# Altium footprint library ch340c.PcbLib: 7 footprints
Each footprint in its own frame and in the unit in brackets; x right, y up, seen from the top. Pads: shape width x height; smd on the part's side, far side on the other; paste and mask are expansions set on the pad; w line width, h text height; cw(c..) or ccw(c..) is an arc to the next point about the centre after c.
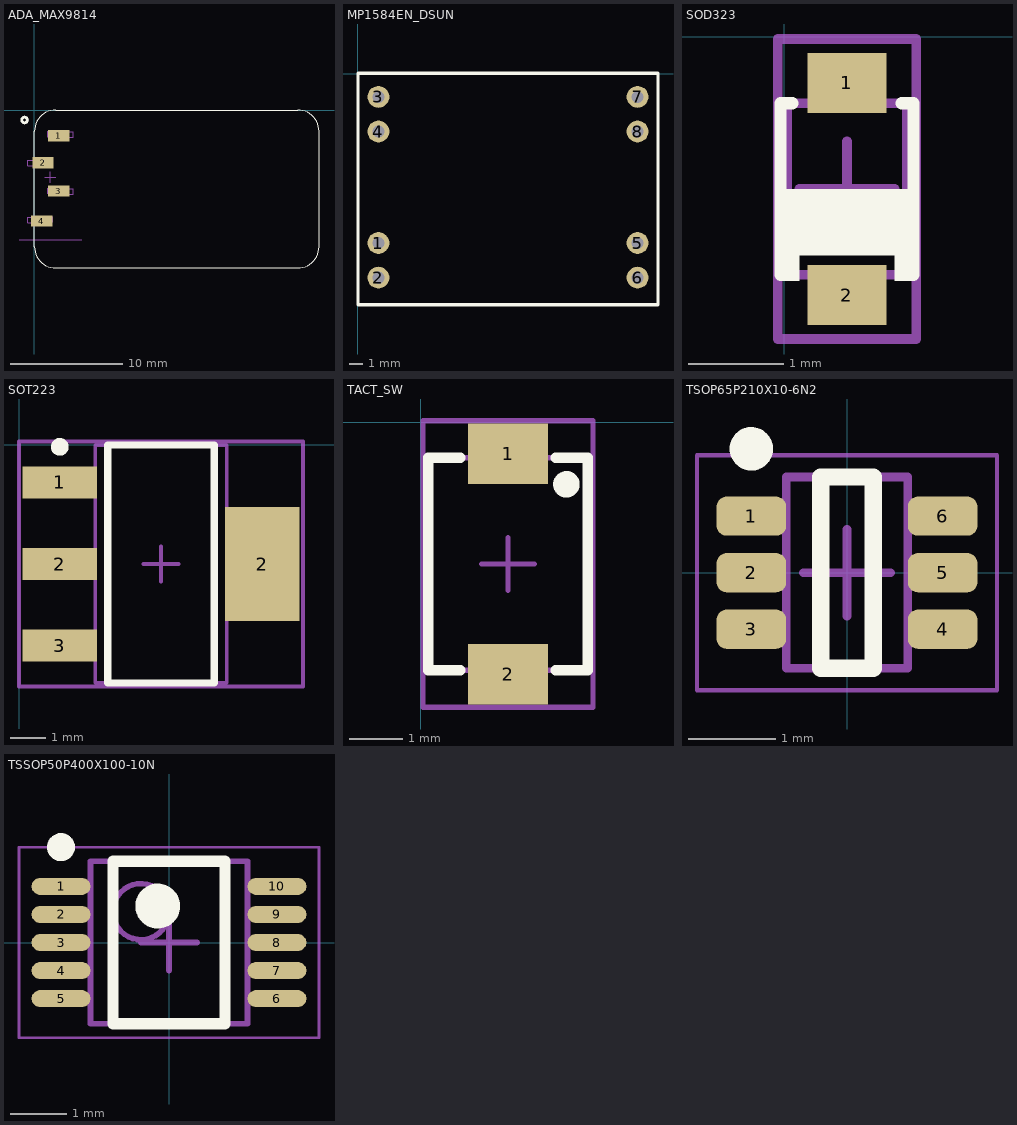
[diagram p0: the footprints below, top view; thin cyan lines are the x and y axes]

## ADA_MAX9814 [mm]
pads (4):
  rect 1.91x1 smd: 1(2.159,-2.286) 2(0.762,-4.699) 3(2.159,-7.239) 4(0.635,-9.906)
Top Overlay:
  circle w0.254: c-0.889,-0.889 r0.254
  lines w0.1: 0,-12.192 ccw(c1.905,-12.192) 1.905,-14.097 23.495,-14.097 ccw(c23.495,-12.192) 25.4,-12.192 25.4,-1.905 ccw(c23.495,-1.905) 23.495,0 1.905,0 ccw(c1.905,-1.905) 0,-1.905 0,-12.192
Mechanical 8:
  region: 1.143,-1.905 1.651,-1.905 1.651,-2.413 1.143,-2.413
  region: 1.143,-4.445 1.651,-4.445 1.651,-4.953 1.143,-4.953
  region: 1.143,-6.985 1.651,-6.985 1.651,-7.493 1.143,-7.493
  region: 1.143,-9.525 1.651,-9.525 1.651,-10.033 1.143,-10.033
Mechanical 13:
  lines w0.1: 0.169,-10.056 -0.606,-10.056 -0.606,-9.556 0.169,-9.556 ; 0.169,-4.976 -0.606,-4.976 -0.606,-4.476 0.169,-4.476 ; 2.669,-7.516 3.444,-7.516 3.444,-7.016 2.669,-7.016 ; 2.669,-2.436 3.444,-2.436 3.444,-1.936 2.669,-1.936
Mechanical 15:
  lines w0.05: -1.381,-11.601 4.219,-11.601 ; 0.919,-5.996 1.919,-5.996 ; 1.419,-6.496 1.419,-5.496

## MP1584EN_DSUN [mm]
pads (8):
  round 1.6 hole 0.9: 1(1.526,-12.398) 2(1.526,-14.938) 3(1.526,-1.684) 4(1.526,-4.224) 5(20.526,-12.398) 6(20.526,-14.938) 7(20.526,-1.684) 8(20.526,-4.224)
Top Overlay:
  lines w0.254: 0.026,-16.938 22.026,-16.938 22.026,0.062 0.026,0.062 0.026,-16.938
3D body "PCB_REG.STEP": height 4.26, standoff 0.59, extent -0.052,-16.829 21.948,0.171

## SOD323 [mm]
pads (2):
  rect 0.83x0.63 smd: 1(0.66,-0.485) 2(0.66,-2.715)
Top Overlay:
  region: -0.04,-2.014 -0.04,-2.564 0.16,-2.564 0.16,-2.014
  region: 1.16,-2.014 1.16,-2.564 1.36,-2.564 1.36,-2.014
  region: -0.04,-1.6 -0.04,-2.3 1.36,-2.3 1.36,-1.6
  lines w0.127: 0.085,-2.5 -0.04,-2.5 -0.04,-0.7 0.085,-0.7 ; 1.235,-2.5 1.36,-2.5 1.36,-0.7 1.235,-0.7
Mechanical 13:
  lines w0.1: 0.035,-2.5 0.035,-0.7 1.285,-0.7 1.285,-2.5 0.035,-2.5
Mechanical 15:
  lines w0.1: 0.16,-1.6 1.16,-1.6 ; 0.66,-2.1 0.66,-1.1 ; -0.065,-3.175 1.385,-3.175 1.385,-0.025 -0.065,-0.025 -0.065,-3.175
3D body "User Library-SOD323.step": height 1.1, standoff 0, extent 0.035,-2.95 1.285,-0.25

## SOT223 [mm]
pads (4):
  rect 2.1x0.9 smd: 1(1.138,-1.053) 2(1.138,-3.353) 3(1.138,-5.653)
  rect 2.1x3.2 smd: 2(6.838,-3.353)
Top Overlay:
  circle w0.25: c1.138,-0.053 r0.125
  lines w0.2: 2.488,-6.703 5.488,-6.703 5.488,-0.003 2.488,-0.003 2.488,-6.703
Mechanical 13:
  lines w0.1: 2.138,-6.703 5.838,-6.703 5.838,-0.003 2.138,-0.003 2.138,-6.703
Mechanical 15:
  lines w0.1: 3.488,-3.353 4.488,-3.353 ; 3.988,-3.853 3.988,-2.853 ; -0.012,-6.803 7.988,-6.803 7.988,0.097 -0.012,0.097 -0.012,-6.803
3D body "User Library-SOT-223-4.STEP": height 1.65, standoff 0, extent 0.444,-6.603 7.531,-0.103

## TACT_SW [mm]
pads (4):
  rect 1.5x1.143 smd: 1(1.64,-0.592) 2(1.64,-4.742)
  round 0 all layers, no hole paste-2.54 mask-2.54: MH1(2.54,-2.667) MH2(0.74,-2.667)
Top Overlay:
  circle w0.25: c2.74,-1.167 r0.125
  lines w0.2: 0.74,-4.667 0.14,-4.667 0.14,-0.667 0.74,-0.667 ; 2.54,-4.667 3.14,-4.667 3.14,-0.667 2.54,-0.667
Mechanical 13:
  lines w0.1: 0.14,-4.667 3.14,-4.667 3.14,-0.667 0.14,-0.667 0.14,-4.667
Mechanical 15:
  lines w0.1: 1.14,-2.667 2.14,-2.667 ; 1.64,-3.167 1.64,-2.167 ; 0.04,-5.367 3.24,-5.367 3.24,0.033 0.04,0.033 0.04,-5.367
3D body "SMT Tactile Switch PTS-820.STEP": height 2.05, standoff -0.5, extent 0.09,-4.917 3.19,-0.417

## TSOP65P210X10-6N2 [mm] "TSOP, 6-Leads, Body 2.00x1.25mm, Pitch 0.65mm, IPC Medium Density"
height 0.1
pads (6):
  rrect50% 0.8x0.45 smd mask+0.065: 1(-1.1,0.65) 2(-1.1,0) 3(-1.1,-0.65) 4(1.1,-0.65) 5(1.1,0) 6(1.1,0.65)
Top Overlay:
  circle w0.25: c-1.1,1.425 r0.125
  lines w0.2: -0.3,-1.1 -0.3,1.1 0.3,1.1 0.3,-1.1 -0.3,-1.1
Mechanical 13:
  lines w0.1: -0.7,-1.1 -0.7,1.1 0.7,1.1 0.7,-1.1 -0.7,-1.1
Mechanical 15:
  lines w0.05: -1.725,-1.35 -1.725,1.35 1.725,1.35 1.725,-1.35 -1.725,-1.35
  lines w0.1: -0.5,0 0.5,0 ; 0,-0.5 0,0.5
3D body "TSOP65P210X10-6N.step": height 0.8, standoff 0, extent -1.043,-1.1 1.043,1.1

## TSSOP50P400X100-10N [mm] "TSSOP, 10-Leads, Body 2.90x2.80mm, Pitch 0.50mm, IPC Medium Density"
height 1
pads (10):
  oval 1.05x0.3 smd mask+0.075: 1(-1.925,1) 2(-1.925,0.5) 3(-1.925,0) 4(-1.925,-0.5) 5(-1.925,-1) 6(1.925,-1) 7(1.925,-0.5) 8(1.925,0) 9(1.925,0.5) 10(1.925,1)
Top Overlay:
  circle w0.25: c-1.925,1.7 r0.125
  circle w0.4: c-0.2,0.65 r0.2
  lines w0.2: -1,-1.45 -1,1.45 1,1.45 1,-1.45 -1,-1.45
Mechanical 13:
  circle w0.1: c-0.5,0.55 r0.5
  lines w0.1: -1.4,-1.45 -1.4,1.45 1.4,1.45 1.4,-1.45 -1.4,-1.45
Mechanical 15:
  lines w0.05: -2.675,-1.7 -2.675,1.7 2.675,1.7 2.675,-1.7 -2.675,-1.7
  lines w0.1: -0.5,0 0.5,0 ; 0,-0.5 0,0.5
3D body "TSSOP50P400X100-10N.step": height 1, standoff 0, extent -2,-1.45 2,1.45